# Altium footprint library PoE24V.PcbLib: 1 footprints
Each footprint in its own frame and in the unit in brackets; x right, y up, seen from the top. Pads: shape width x height; smd on the part's side, far side on the other; paste and mask are expansions set on the pad; w line width, h text height; cw(c..) or ccw(c..) is an arc to the next point about the centre after c.
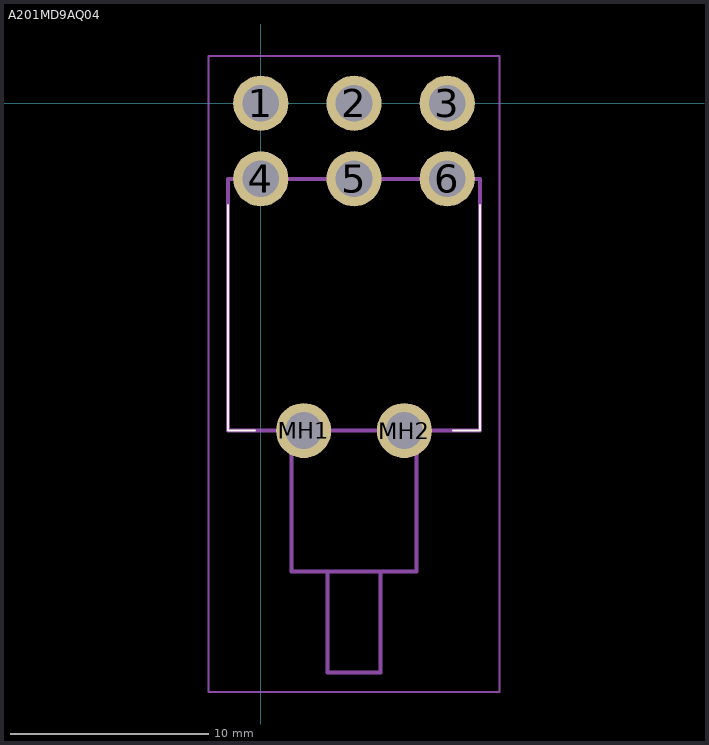
[diagram p0: the footprint, top view; thin cyan lines are the x and y axes]

## A201MD9AQ04 [mil]
pads (8):
  round 109.49 hole 73: 1(0,0) 2(185.04,0) 3(370.08,0) 4(0,-150) 5(185.04,-150) 6(370.08,-150) MH1(85.04,-650) MH2(285.04,-650)
Top Overlay:
  lines w3.94: -64.96,-201.65 -64.96,-650 -11.81,-650 ; 381.89,-650 435.04,-650 435.04,-201.65
Mechanical 15:
  lines w7.87: -64.96,-650 435.04,-650 435.04,-150 -64.96,-150 -64.96,-650 ; 60.55,-930 309.53,-930 309.53,-650 60.55,-650 60.55,-930 ; 132.52,-1130 237.56,-1130 237.56,-930 132.52,-930 132.52,-1130
Mechanical 20:
  lines w3.94: -104.33,-1169.37 474.41,-1169.37 474.41,94.13 -104.33,94.13 -104.33,-1169.37
3D body "A201MD9AQ04.stp": height 453.94, standoff -196.85, extent -65,-1132.33 435,30